# Altium schematic symbol library Terminal Block 13.SchLib: 1 symbol
Pins are listed as number, name and electrical type; pins without a type are passive.

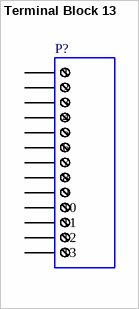
[diagram p0: symbol Terminal Block 13]

## Terminal Block 13
designator P?
Screw terminal block, 13-Way
pins: 1, 2, 3, 4, 5, 6, 7, 8, 9, 10, 11, 12, 13